# Altium schematic symbol library Relay.SchLib: 12 symbols
Pins are listed as number, name and electrical type; pins without a type are passive.

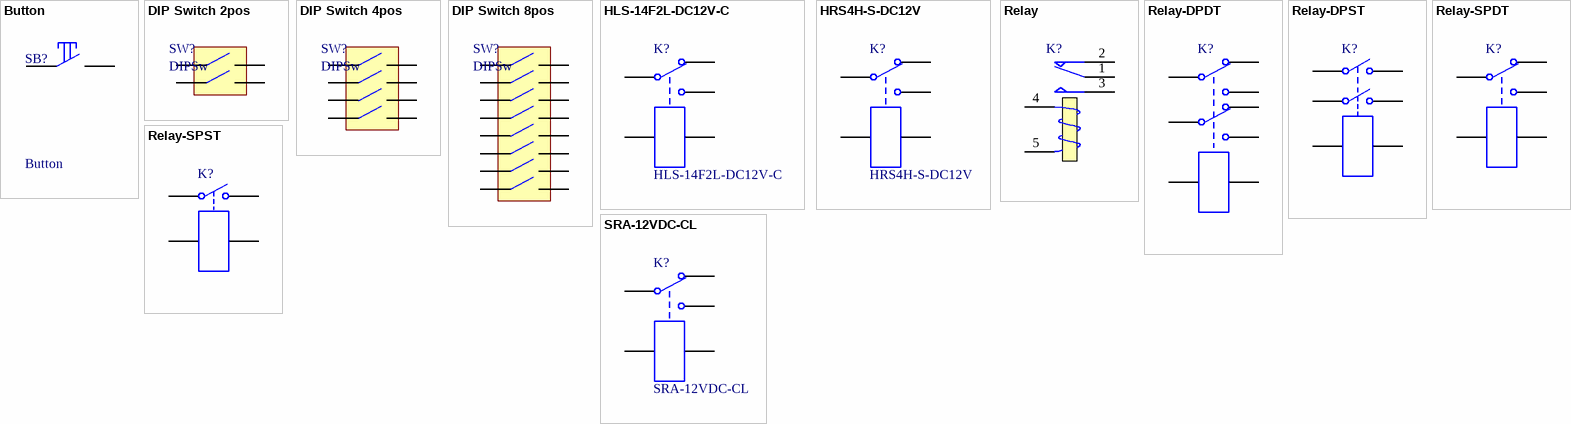
[diagram p0: symbols Button to SRA-12VDC-CL]

## Button
designator SB?
Tact button
footprint Switch Button 2P
footprint Switch Button 4P
pins: 1, 2

## DIP Switch 2pos
designator SW?, comment DIPSw
footprint DIP Switch 2p
pins: 1, 2, 3, 4

## DIP Switch 4pos
designator SW?, comment DIPSw
footprint DIP Switch 4p
pins: 1, 2, 3, 4, 5, 6, 7, 8

## DIP Switch 8pos
designator SW?, comment DIPSw
footprint DIP Switch 8p
pins: 1, 2, 3, 4, 5, 6, 7, 8, 9, 10, 11, 12, 13, 14, 15, 16

## HLS-14F2L-DC12V-C
designator K?
Single-Pole Dual-Throw Relay; R обм: 270 Om; I (DC = 30 V): 16A; U: 12 V; Name: HLS-14F2L-DC12V-C; DataSheet: http://tec.org.ru/board/0-0-0-2670-20; I (AC = 240 V): 16A
simulation model SPDTRELAY (Spice Subcircuit)
footprint HLS-14F2L-DC12V-C
pins: 1, 2, 3, 4, 5

## HRS4H-S-DC12V
designator K?
Single-Pole Relay 12V 10A; R обм: 240 Om; Name: HRS4H-S-DC12V; I (DC = 28 V): 10A; I (AC = 240 V): 10A; U: 12 V
simulation model SPDTRELAY (Spice Subcircuit)
footprint Relay Type C
pins: 1, 2, 3, 4, 5

## Relay
designator K?
SPDT Relay; Published: 8-Jun-2000; LatestRevisionDate: 17-Jul-2002; LatestRevisionNote: Re-released for DXP Platform.; PackageReference: MODULE5B; Publisher: Altium Limited
simulation model SPDTRELAY (Spice Subcircuit)
pins: 1 COM, 2 NC, 3 NO, 4 T1, 5 T2

## Relay-DPDT
designator K?
Dual-Pole Dual-Throw Relay; Published: 24-Mar-1999; LatestRevisionDate: 17-Jul-2002; LatestRevisionNote: Re-released for DXP Platform.; PackageReference: DIP-P8; Publisher: Altium Limited; PackageDescription: Relay; 8 Leads
simulation model DPDTRELAY (Spice Subcircuit)
pins: 1, 2, 3, 4, 5, 6, 7, 8

## Relay-DPST
designator K?
Dual-Pole Single-Throw Relay; Published: 24-Mar-1999; LatestRevisionDate: 17-Jul-2002; LatestRevisionNote: Re-released for DXP Platform.; PackageReference: MODULE6; Publisher: Altium Limited
simulation model DPSTRELAY (Spice Subcircuit)
pins: 1, 2, 3, 4, 5, 6

## Relay-SPDT
designator K?
Single-Pole Dual-Throw Relay; Published: 24-Mar-1999; LatestRevisionDate: 17-Jul-2002; LatestRevisionNote: Re-released for DXP Platform.; PackageReference: MODULE5B; Publisher: Altium Limited
simulation model SPDTRELAY (Spice Subcircuit)
pins: 1, 2, 3, 4, 5

## Relay-SPST
designator K?
Single-Pole Single-Throw Relay; Published: 24-Mar-1999; LatestRevisionDate: 17-Jul-2002; LatestRevisionNote: Re-released for DXP Platform.; PackageReference: MODULE4; Publisher: Altium Limited
simulation model SPSTRELAY (Spice Subcircuit)
pins: 1, 2, 3, 4

## SRA-12VDC-CL
designator K?
Single-Pole Dual-Throw Relay; R обм: 240 Om; I (DC = 30 V): 10A; I (AC = 240 V): 15-20A; U: 12 V; Name: SRA-12VDC-CL; DataSheet: http://tec.org.ru/_bd/12/1208_SRA.pdf
simulation model SPDTRELAY (Spice Subcircuit)
footprint SRA-12VDC-CL 2
footprint SRA-12VDC-CL
pins: 1, 2, 3, 4, 5